# Altium schematic symbol library Schlib.SchLib: 2 symbols
Pins are listed as number, name and electrical type; pins without a type are passive.

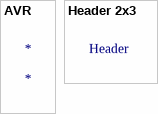
[diagram p0: symbols AVR to Header 2x3]

## AVR
designator *
footprint ATMEGA328

## Header 2x3
designator Header, comment Header padrão  (value not drawn)
Header para motor com 6 entradas
footprint FAULHABER_1524B009SR (Header 2x3 (2mm pitch))